# EAGLE library part AT32UC3B164/1128/1256 (library atmel-avr32-michel)
AT32UB3C1128/1256/1512
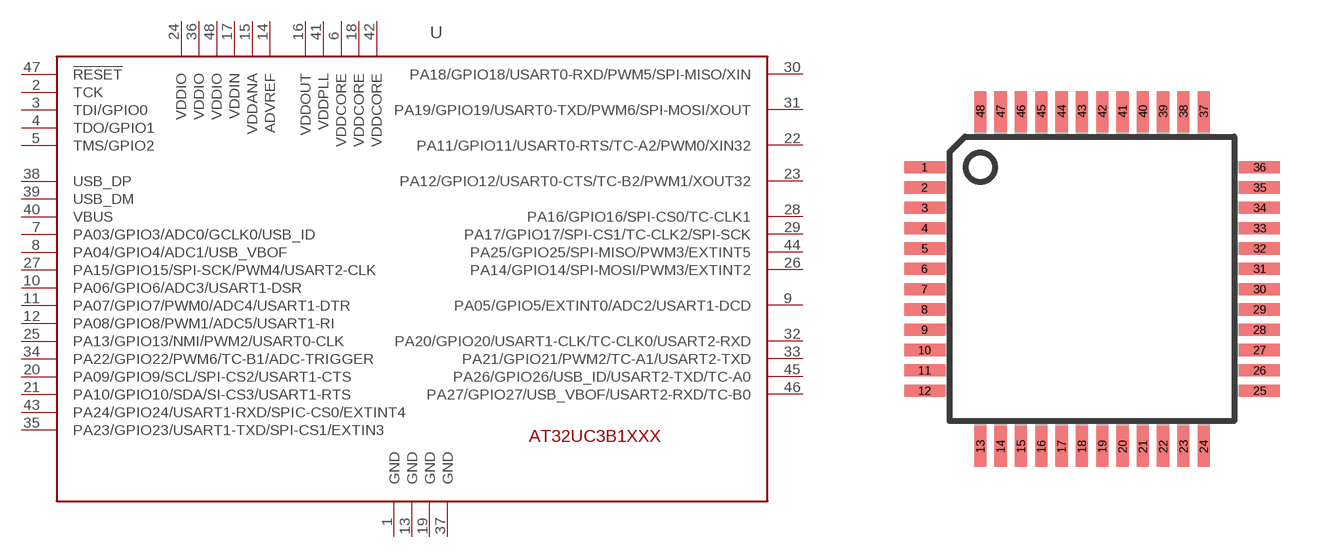
[diagram p6: symbol with the pads of TQFP48; footprint TQFP48]

Designator prefix U

## AT32UC3B164/1128/1256  [TQFP48]
1  GND
2  TCK
3  TDI/GPIO0
4  TDO/GPIO1
5  TMS/GPIO2
6  VDDCORE
7  PA03/GPIO3/ADC0/GCLK0/USB_ID
8  PA04/GPIO4/ADC1/USB_VBOF
9  PA05/GPIO5/EXTINT0/ADC2/USART1-DCD
10  PA06/GPIO6/ADC3/USART1-DSR
11  PA07/GPIO7/PWM0/ADC4/USART1-DTR
12  PA08/GPIO8/PWM1/ADC5/USART1-RI
13  GND
14  ADVREF
15  VDDANA
16  VDDOUT
17  VDDIN
18  VDDCORE
19  GND
20  PA09/GPIO9/SCL/SPI-CS2/USART1-CTS
21  PA10/GPIO10/SDA/SI-CS3/USART1-RTS
22  PA11/GPIO11/USART0-RTS/TC-A2/PWM0/XIN32
23  PA12/GPIO12/USART0-CTS/TC-B2/PWM1/XOUT32
24  VDDIO
25  PA13/GPIO13/NMI/PWM2/USART0-CLK
26  PA14/GPIO14/SPI-MOSI/PWM3/EXTINT2
27  PA15/GPIO15/SPI-SCK/PWM4/USART2-CLK
28  PA16/GPIO16/SPI-CS0/TC-CLK1
29  PA17/GPIO17/SPI-CS1/TC-CLK2/SPI-SCK
30  PA18/GPIO18/USART0-RXD/PWM5/SPI-MISO/XIN
31  PA19/GPIO19/USART0-TXD/PWM6/SPI-MOSI/XOUT
32  PA20/GPIO20/USART1-CLK/TC-CLK0/USART2-RXD
33  PA21/GPIO21/PWM2/TC-A1/USART2-TXD
34  PA22/GPIO22/PWM6/TC-B1/ADC-TRIGGER
35  PA23/GPIO23/USART1-TXD/SPI-CS1/EXTIN3
36  VDDIO
37  GND
38  USB_DP
39  USB_DM
40  VBUS
41  VDDPLL
42  VDDCORE
43  PA24/GPIO24/USART1-RXD/SPIC-CS0/EXTINT4
44  PA25/GPIO25/SPI-MISO/PWM3/EXTINT5
45  PA26/GPIO26/USB_ID/USART2-TXD/TC-A0
46  PA27/GPIO27/USB_VBOF/USART2-RXD/TC-B0
47  !RESET
48  VDDIO

## Footprint TQFP48 (pad centres in mm)
Thin Plasic Quad Flat Package
smd 1.016 x 0.305: 1 -4.191,2.794; 2 -4.191,2.286; 3 -4.191,1.778; 4 -4.191,1.27; 5 -4.191,0.762; 6 -4.191,0.254; 7 -4.191,-0.254; 8 -4.191,-0.762; 9 -4.191,-1.27; 10 -4.191,-1.778; 11 -4.191,-2.286; 12 -4.191,-2.794; 25 4.191,-2.794; 26 4.191,-2.286; 27 4.191,-1.778; 28 4.191,-1.27; 29 4.191,-0.762; 30 4.191,-0.254; 31 4.191,0.254; 32 4.191,0.762; 33 4.191,1.27; 34 4.191,1.778; 35 4.191,2.286; 36 4.191,2.794
smd 0.305 x 1.016: 13 -2.794,-4.191; 14 -2.286,-4.191; 15 -1.778,-4.191; 16 -1.27,-4.191; 17 -0.762,-4.191; 18 -0.254,-4.191; 19 0.254,-4.191; 20 0.762,-4.191; 21 1.27,-4.191; 22 1.778,-4.191; 23 2.286,-4.191; 24 2.794,-4.191; 37 2.794,4.191; 38 2.286,4.191; 39 1.778,4.191; 40 1.27,4.191; 41 0.762,4.191; 42 0.254,4.191; 43 -0.254,4.191; 44 -0.762,4.191; 45 -1.27,4.191; 46 -1.778,4.191; 47 -2.286,4.191; 48 -2.794,4.191